# Altium footprint library PcbLib1.PcbLib: 1 footprints
Each footprint in its own frame and in the unit in brackets; x right, y up, seen from the top. Pads: shape width x height; smd on the part's side, far side on the other; paste and mask are expansions set on the pad; w line width, h text height; cw(c..) or ccw(c..) is an arc to the next point about the centre after c.
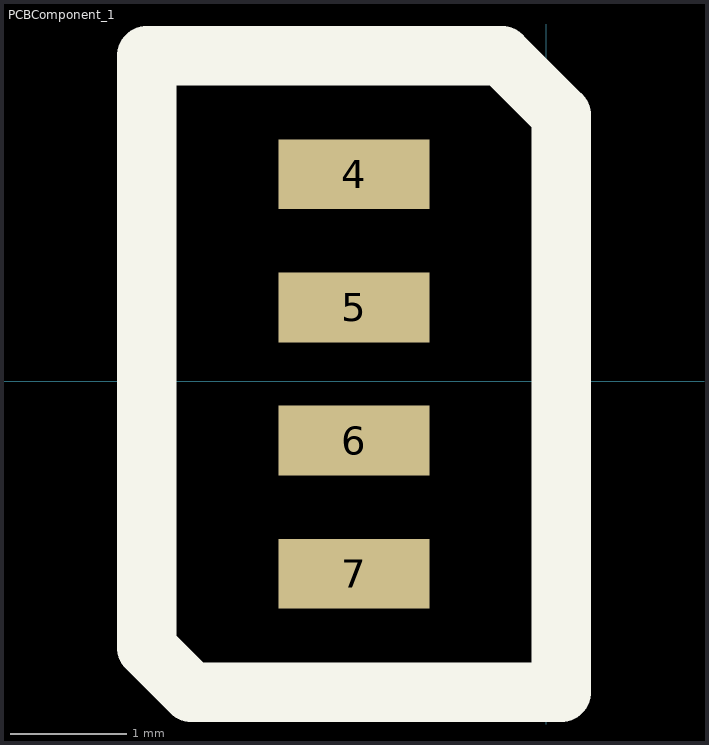
[diagram p0: the footprint, top view; thin cyan lines are the x and y axes]

## PCBComponent_1 [mm]
pads (4):
  rect 1.3x0.6 smd: 4(-1.651,1.778) 5(-1.651,0.635) 6(-1.651,-0.508) 7(-1.651,-1.651)
Top Overlay:
  lines w0.508: -3.429,-2.286 -3.048,-2.667 0.127,-2.667 0.127,2.286 -0.381,2.794 -3.429,2.794 -3.429,1.651 -3.429,-2.286